# Altium schematic symbol library NC7WZ16.SchLib: 1 symbol
Pins are listed as number, name and electrical type; pins without a type are passive.

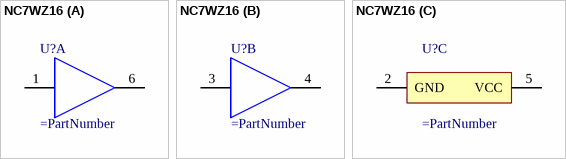
[diagram p0: symbol NC7WZ16]

## NC7WZ16
designator U?
part A pins: 1 A1, 6 Y1
part B pins: 3 A2, 4 Y2
part C pins: 2 GND, 5 VCC